# Altium footprint library HEADER_F_1x6_2.54.PcbLib: 1 footprints
Each footprint in its own frame and in the unit in brackets; x right, y up, seen from the top. Pads: shape width x height; smd on the part's side, far side on the other; paste and mask are expansions set on the pad; w line width, h text height; cw(c..) or ccw(c..) is an arc to the next point about the centre after c.
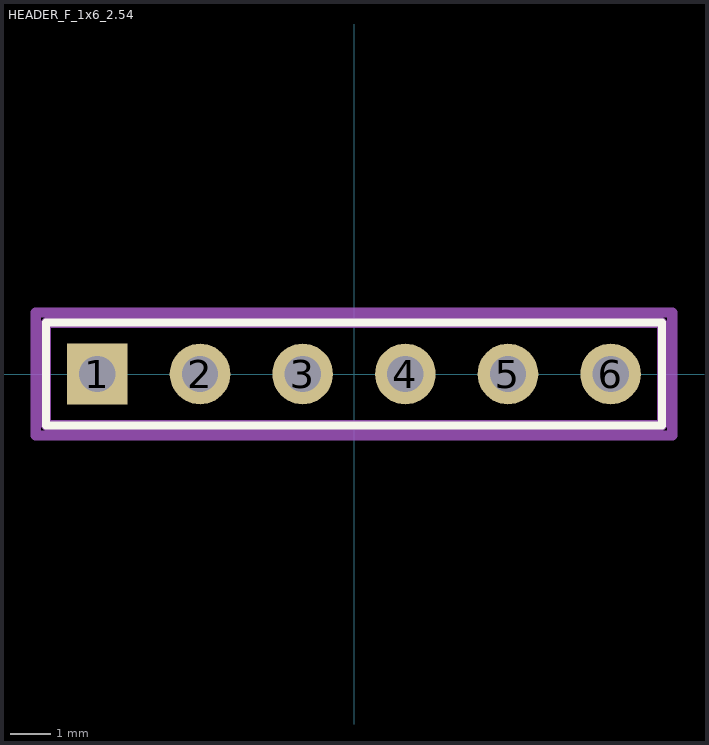
[diagram p0: the footprint, top view; thin cyan lines are the x and y axes]

## HEADER_F_1x6_2.54 [mm] "Connector; Header; 6 Position, Male"
pads (6):
  rect 1.5x1.5 hole 0.9: 1(-6.35,0)
  round 1.5 hole 0.9: 2(-3.81,0) 3(-1.27,0) 4(1.27,0) 5(3.81,0) 6(6.35,0)
Top Overlay:
  lines w0.2: -7.62,-1.27 7.62,-1.27 7.62,1.27 -7.62,1.27 -7.62,-1.27
Top Assembly:
  lines w0.254: -7.62,-1.27 -7.62,1.27 7.62,1.27 7.62,-1.27 -7.62,-1.27
Top Courtyard:
  lines w0.254: -7.874,-1.524 -7.874,1.524 7.874,1.524 7.874,-1.524 -7.874,-1.524
3D body "User Library-Header_Fem_1X6.step": height 8.5, standoff -3.2, extent -7.87,-1.27 7.87,1.27